# EAGLE library part PIC24FJ64GA002T-I/ML (library pic24fj64ga002)
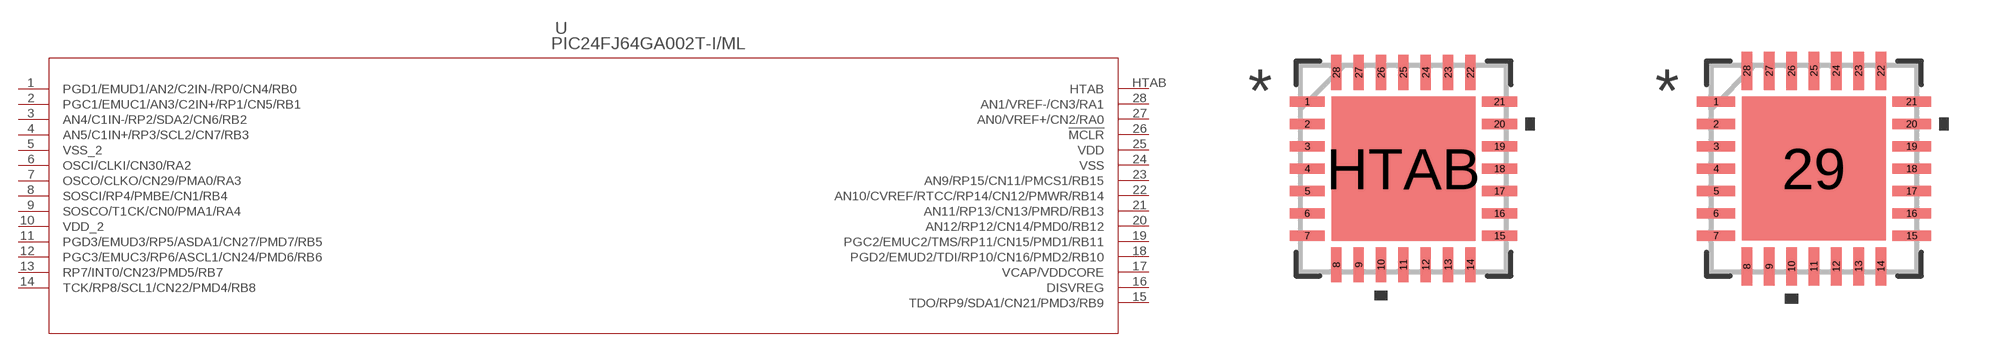
[diagram p0: symbol with the pads of QFN28_6X6MC; footprints QFN28_6X6MC, QFN28_6X6MC-M]

Designator prefix U

## PIC24FJ64GA002T-I/ML (MANUFACTURER_PART_NUMBER: PIC24FJ64GA002TIML; VENDOR: Microchip)  [QFN28_6X6MC]
1  PGD1/EMUD1/AN2/C2IN-/RP0/CN4/RB0  pas
2  PGC1/EMUC1/AN3/C2IN+/RP1/CN5/RB1  pas
3  AN4/C1IN-/RP2/SDA2/CN6/RB2  pas
4  AN5/C1IN+/RP3/SCL2/CN7/RB3  pas
5  VSS_2  pas
6  OSCI/CLKI/CN30/RA2  pas
7  OSCO/CLKO/CN29/PMA0/RA3  pas
8  SOSCI/RP4/PMBE/CN1/RB4  pas
9  SOSCO/T1CK/CN0/PMA1/RA4  pas
10  VDD_2  pas
11  PGD3/EMUD3/RP5/ASDA1/CN27/PMD7/RB5  pas
12  PGC3/EMUC3/RP6/ASCL1/CN24/PMD6/RB6  pas
13  RP7/INT0/CN23/PMD5/RB7  pas
14  TCK/RP8/SCL1/CN22/PMD4/RB8  pas
15  TDO/RP9/SDA1/CN21/PMD3/RB9  pas
16  DISVREG  pas
17  VCAP/VDDCORE  pas
18  PGD2/EMUD2/TDI/RP10/CN16/PMD2/RB10  pas
19  PGC2/EMUC2/TMS/RP11/CN15/PMD1/RB11  pas
20  AN12/RP12/CN14/PMD0/RB12  pas
21  AN11/RP13/CN13/PMRD/RB13  pas
22  AN10/CVREF/RTCC/RP14/CN12/PMWR/RB14  pas
23  AN9/RP15/CN11/PMCS1/RB15  pas
24  VSS  pas
25  VDD  pas
26  !MCLR  pas
27  AN0/VREF+/CN2/RA0  pas
28  AN1/VREF-/CN3/RA1  pas
HTAB  HTAB  pas

## PIC24FJ64GA002T-I/MLQFN28_6X6MC-M (MANUFACTURER_PART_NUMBER: PIC24FJ64GA002TIML; VENDOR: Microchip)  [QFN28_6X6MC-M]
1  PGD1/EMUD1/AN2/C2IN-/RP0/CN4/RB0  pas
2  PGC1/EMUC1/AN3/C2IN+/RP1/CN5/RB1  pas
3  AN4/C1IN-/RP2/SDA2/CN6/RB2  pas
4  AN5/C1IN+/RP3/SCL2/CN7/RB3  pas
5  VSS_2  pas
6  OSCI/CLKI/CN30/RA2  pas
7  OSCO/CLKO/CN29/PMA0/RA3  pas
8  SOSCI/RP4/PMBE/CN1/RB4  pas
9  SOSCO/T1CK/CN0/PMA1/RA4  pas
10  VDD_2  pas
11  PGD3/EMUD3/RP5/ASDA1/CN27/PMD7/RB5  pas
12  PGC3/EMUC3/RP6/ASCL1/CN24/PMD6/RB6  pas
13  RP7/INT0/CN23/PMD5/RB7  pas
14  TCK/RP8/SCL1/CN22/PMD4/RB8  pas
15  TDO/RP9/SDA1/CN21/PMD3/RB9  pas
16  DISVREG  pas
17  VCAP/VDDCORE  pas
18  PGD2/EMUD2/TDI/RP10/CN16/PMD2/RB10  pas
19  PGC2/EMUC2/TMS/RP11/CN15/PMD1/RB11  pas
20  AN12/RP12/CN14/PMD0/RB12  pas
21  AN11/RP13/CN13/PMRD/RB13  pas
22  AN10/CVREF/RTCC/RP14/CN12/PMWR/RB14  pas
23  AN9/RP15/CN11/PMCS1/RB15  pas
24  VSS  pas
25  VDD  pas
26  !MCLR  pas
27  AN0/VREF+/CN2/RA0  pas
28  AN1/VREF-/CN3/RA1  pas

## PIC24FJ64GA002T-I/MLQFN28_6X6MC-L (MANUFACTURER_PART_NUMBER: PIC24FJ64GA002TIML; VENDOR: Microchip)  [QFN28_6X6MC-L]
Pads as for QFN28_6X6MC-M

## Footprint QFN28_6X6MC (pad centres in mm)
smd 1.016 x 0.305: 1 -2.797,1.95; 2 -2.797,1.3; 3 -2.797,0.65; 4 -2.797,0; 5 -2.797,-0.65; 6 -2.797,-1.3; 7 -2.797,-1.95; 15 2.797,-1.95; 16 2.797,-1.3; 17 2.797,-0.65; 18 2.797,0; 19 2.797,0.65; 20 2.797,1.3; 21 2.797,1.95
smd 0.305 x 1.016: 8 -1.95,-2.797; 9 -1.3,-2.797; 10 -0.65,-2.797; 11 0,-2.797; 12 0.65,-2.797; 13 1.3,-2.797; 14 1.95,-2.797; 22 1.95,2.797; 23 1.3,2.797; 24 0.65,2.797; 25 0,2.797; 26 -0.65,2.797; 27 -1.3,2.797; 28 -1.95,2.797
smd 4.191 x 4.191: HTAB 0,0

## Footprint QFN28_6X6MC-M (pad centres in mm)
smd 1.118 x 0.305: 1 -2.845,1.95; 2 -2.845,1.3; 3 -2.845,0.65; 4 -2.845,0; 5 -2.845,-0.65; 6 -2.845,-1.3; 7 -2.845,-1.95; 15 2.845,-1.95; 16 2.845,-1.3; 17 2.845,-0.65; 18 2.845,0; 19 2.845,0.65; 20 2.845,1.3; 21 2.845,1.95
smd 0.305 x 1.118: 8 -1.95,-2.845; 9 -1.3,-2.845; 10 -0.65,-2.845; 11 0,-2.845; 12 0.65,-2.845; 13 1.3,-2.845; 14 1.95,-2.845; 22 1.95,2.845; 23 1.3,2.845; 24 0.65,2.845; 25 0,2.845; 26 -0.65,2.845; 27 -1.3,2.845; 28 -1.95,2.845
smd 4.191 x 4.191: 29 0,0

## Footprint QFN28_6X6MC-L (pad centres in mm)
smd 0.914 x 0.305: 1 -2.743,1.95; 2 -2.743,1.3; 3 -2.743,0.65; 4 -2.743,0; 5 -2.743,-0.65; 6 -2.743,-1.3; 7 -2.743,-1.95; 15 2.743,-1.95; 16 2.743,-1.3; 17 2.743,-0.65; 18 2.743,0; 19 2.743,0.65; 20 2.743,1.3; 21 2.743,1.95
smd 0.305 x 0.914: 8 -1.95,-2.743; 9 -1.3,-2.743; 10 -0.65,-2.743; 11 0,-2.743; 12 0.65,-2.743; 13 1.3,-2.743; 14 1.95,-2.743; 22 1.95,2.743; 23 1.3,2.743; 24 0.65,2.743; 25 0,2.743; 26 -0.65,2.743; 27 -1.3,2.743; 28 -1.95,2.743
smd 4.191 x 4.191: 29 0,0